# Altium schematic symbol library CD4071BEE4.SchLib: 1 symbol
Pins are listed as number, name and electrical type; pins without a type are passive.

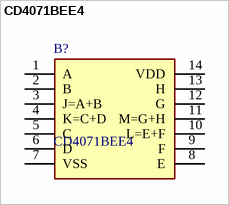
[diagram p0: symbol CD4071BEE4]

## CD4071BEE4
designator B?
OR Gate 4-Element 2-IN CMOS 14-Pin PDIP Tube; Manufacturer_Name: Texas Instruments; Geometry.Height: 5.08mm; Mouser Part Number: 595-CD4071BEE4; Mouser Price/Stock: https://www.mouser.co.uk/ProductDetail/Texas-Instruments/CD4071BEE4?qs=HTr%252BoA4jRiljiW0C8Y67gw%3D%3D; Manufacturer_Part_Number: CD4071BEE4; Datasheet Link: https://www.arrow.com/en/products/cd4071bee4/texas-instruments
footprint DIP794W53P254L1930H508Q14N
pins: 1 A, 2 B, 3 J=A+B, 4 K=C+D, 5 C, 6 D, 7 VSS, 8 E, 9 F, 10 L=E+F, 11 M=G+H, 12 G, 13 H, 14 VDD